# Altium schematic symbol library BHK_Sch_Public.SchLib: 9 symbols
Pins are listed as number, name and electrical type; pins without a type are passive.

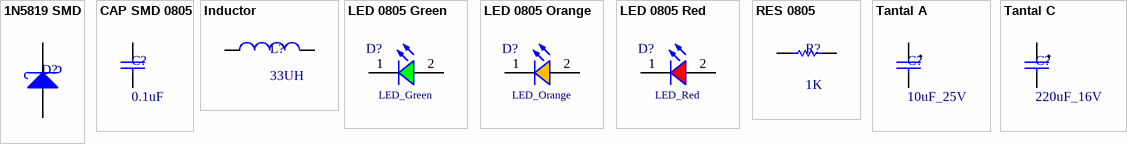
[diagram p0: symbols 1N5819 SMD to Tantal C]

## 1N5819 SMD
designator D?, comment 1n5819  (value not drawn)
Schottky Rectifiers; Part. No: SS34; Manufacturer: ON Semiconductor/Fairchild; Designer: Abbas Basereh; BHK_SUB_Group: Shotcky; BHK_Group: Diod; BHK_NC: no; Link: https://www.aliexpress.com/item/Free-shipping-100pcs-1n5822-sma-smd-do-214ac-Schottky-diode-ss34/32337482329.html?spm=2114.01010208.3.1.zLZDsP&ws_ab_test=searchweb0_0,searchweb201602_4_10065_10068_10084_10083_10080_10082_10081_10060_10061_10062_10056_10055_10054_10059_10099_10078_10079_427_10073_10103_10102_10096_10052_10050_10051,searchweb201603_4&btsid=6e50dc92-ac69-45bc-a19e-209af19ce602; Link: http://www.tme.eu/en/details/ss34/smd-schottky-diodes/vishay/ss34-e357t/; Link: http://www.digikey.com/product-detail/en/on-semiconductor-fairchild/SS34/SS34FSCT-ND/2094459; Data: 16-12-2016; BHK_Name: 1N5819
footprint D_SMA_214AC (SMA Molded Diode, 2-Leads, Body 4.3x2.7mm)
pins: 1 A, 2 K

## CAP SMD 0805
designator C?, comment 0.1uF
CAP 0805; Designer: Abbas Basereh; Desc.: CAP SMD 0805; BHK_Group: Capacitor; BHK_SUB_Group: C_805; BHK_NC: no; Data: 16-12-2016; BHK_Name: 0.1uF
footprint C0805 (CHIP Capacitor, 2.0X1.3mm, 0805)
pins: 1, 2

## Inductor
designator L?, comment 33UH
Inductor; Code_IEC: 1005; BHK_SUB_Group: Other_Self; BHK_Group: Self; BHK_NC: no; Published: 8-Jun-2000; LatestRevisionDate: 29-May-2009; LatestRevisionNote: IPC-7351 Footprint Added.; PackageReference: 0402-A; Publisher: Altium Limited; PackageDescription: Chip Inductor; Code_JEITA: 0402; BHK_Name: 33UH
footprint L_3.8*3.8 (INDUCTOR, 3.8x3.8mm, 3.7x3.5mm, WURTH 744031470)
footprint RH127_L_12*12*8 (INDUCTOR, 13.5x12.5mm, DR125, CDRH127, D128C 931AS)
footprint RH74_L_7*7*5 (INDUCTOR, 7.5X7.5mm, 8x8, DR74)
footprint L0805 (INDUCTOR, FERRITE BEAD, 0805, 2.0X1.3mm)
footprint L1206 (INDUCTOR, FERRITE BEAD, 1206, 3.2X1.6mm)
footprint L1210
footprint L_5*5*4
pins: 1, 2

## LED 0805 Green
designator D?, comment LED_Green
SMT Mono-color Chip LED Waterclear WL-SMCW, size 0805, Green, 3.2 V, 140 deg, 450 mcd; Part Number: 150080GS75000; Forward Voltage: 3.2 V; Viewing Angle: 140 deg; Peak Wavelength: 515 nm; Dominant Wavelength: 525 nm; Luminous Intensity: 450 mcd; Chip Technology: InGaN; BHK_Group: Public_PCB; BHK_SUB_Group: LED_805; BHK_NC: no; ComponentLink1Description: Manufacturer; ComponentLink1URL: http://www.we-online.de; ComponentLink2Description: Datasheet; ComponentLink2URL: https://katalog.we-online.de/led/datasheet/150080GS75000.pdf; Published Date: November 2018; Publisher: Wurth Elektronik; Size: 0805; Operating Temperature: -40 to 85 degC; Emitting Color: Green; Mounting Technology: SMT; Packaging: Tape and Reel; BHK_Name: Green
footprint LED_0805 (SMD Mono-color Chip LED, body 2.0x1.25mm)
pins: 1 K, 2 A

## LED 0805 Orange
designator D?, comment LED_Orange
SMT Mono-color Chip LED Waterclear WL-SMCW, size 0805, Amber, 2 V, 140 deg, 130 mcd; Part Number: 150080AS75000; Forward Voltage: 2 V; Viewing Angle: 140 deg; Peak Wavelength: 610 nm; Dominant Wavelength: 605 nm; Luminous Intensity: 130 mcd; Chip Technology: AlInGaP; BHK_Group: Public_PCB; BHK_Name: Orange; BHK_SUB_Group: LED_805; BHK_NC: no; ComponentLink1Description: Manufacturer; ComponentLink1URL: http://www.we-online.de; ComponentLink2Description: Datasheet; ComponentLink2URL: https://katalog.we-online.de/led/datasheet/150080AS75000.pdf; Published Date: November 2018; Publisher: Wurth Elektronik; Size: 0805; Operating Temperature: -40 to 85 degC; Emitting Color: Amber; Mounting Technology: SMT; Packaging: Tape and Reel
footprint LED_0805 (SMD Mono-color Chip LED, body 2.0x1.25mm)
pins: 1 K, 2 A

## LED 0805 Red
designator D?, comment LED_Red
SMT Mono-color Chip LED Waterclear WL-SMCW, size 0805, Red, 2 V, 140 deg, 150 mcd; Part Number: 150080RS75000; Forward Voltage: 2 V; Viewing Angle: 140 deg; Peak Wavelength: 630 nm; Dominant Wavelength: 625 nm; Luminous Intensity: 150 mcd; Chip Technology: AlInGaP; BHK_Group: Public_PCB; BHK_SUB_Group: LED_805; BHK_NC: no; ComponentLink1Description: Manufacturer; ComponentLink1URL: http://www.we-online.de; ComponentLink2Description: Datasheet; ComponentLink2URL: https://katalog.we-online.de/led/datasheet/150080RS75000.pdf; Published Date: November 2018; Publisher: Wurth Elektronik; Size: 0805; Operating Temperature: -40 to 85 degC; Emitting Color: Red; Mounting Technology: SMT; Packaging: Tape and Reel; BHK_Name: Red
footprint LED_0805 (SMD Mono-color Chip LED, body 2.0x1.25mm)
pins: 1 K, 2 A

## RES 0805
designator R?, comment 1K
Resistor; Designer: Abbas Basereh; Desc.: RES SMD 0805; BHK_SUB_Group: R_805; BHK_NC: no; Data: 16-12-2016; BHK_Group: Resistor; BHK_Name: 1K
footprint R0805 (CHIP RESISTOR 1/8 WATT ,2.0X1.3mm, 0805, 2012)
footprint R1206 (CHIP RESISTOR 1/4 WATT, Body 3.2x1.6mm,1206, 3216)
footprint R2512 (CHIP RESISTOR 1 WATT, 6.4X3.2mm, 2512, 6432)
footprint R0603
pins: 1, 2

## Tantal A
designator C?, comment 10uF_25V
TOTAL CAPACITOR SMD PACK; Designer: Abbas Basereh; Desc.: CAP SMD TOTAL PACKAGES; VALUE: 100nF; BHK_SUB_group: Tantal_A; BHK_NC: no; Data: 2017-3-10; BHK_Group: Capacitor; BHK_Name: 10uF_25V
footprint Tantal A (Chip Capacitor, 2-Leads, Body 3.2x1.6mm, IPC High Density, chip Tantalum)
pins: 1, 2

## Tantal C
designator C?, comment 220uF_16V
TOTAL CAPACITOR SMD PACK; Designer: Abbas Basereh; Desc.: CAP SMD TOTAL PACKAGES; VALUE: 100nF; BHK_SUB_group: Tantal_C; BHK_NC: no; Data: 2017-3-10; BHK_Group: Capacitor; BHK_Name: 220uF_16V
footprint Tantal C (CAPACITOR, TAN C, TAN F, TAN U, TAN L, 6032P, 6.0X3.2mm)
pins: 1, 2